# Altium schematic symbol library 282836-2.SchLib: 1 symbol
Pins are listed as number, name and electrical type; pins without a type are passive.

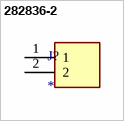
[diagram p0: symbol 282836-2]

## 282836-2
designator J?
MF: {'manufacturer': u'TE Connectivity'}; MP: 282836-2; Package: None; Value: *; Availability: Unavailable; Price: None
footprint TE_282836-2
pins: 1, 2